# EAGLE library part ATTINY10-TS (library NMR_Atmel)
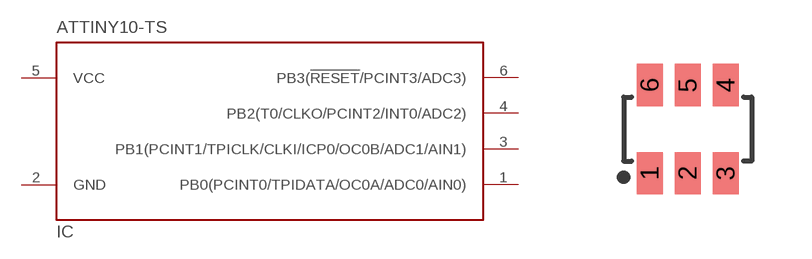
[diagram p0: symbol with the pads of SOT-23-6; footprint SOT-23-6]

Designator prefix IC

## ATTINY10-TS  [SOT-23-6]
1  PB0(PCINT0/TPIDATA/OC0A/ADC0/AIN0)
2  GND  pwr
3  PB1(PCINT1/TPICLK/CLKI/ICP0/OC0B/ADC1/AIN1)
4  PB2(T0/CLKO/PCINT2/INT0/ADC2)
5  VCC  pwr
6  PB3(!RESET!/PCINT3/ADC3)

## Footprint SOT-23-6 (pad centres in mm)
smd 0.65 x 1.06: 1 -0.95,-1.1; 2 0,-1.1; 3 0.95,-1.1; 4 0.95,1.1; 5 0,1.1; 6 -0.95,1.1